# EAGLE library part ATTINY*313 (library atmel)
8-bit AVR tiny Microcontroller Status obsolete/discontinued aktiv aktiv ATtiny2313(V) ATtiny2313A ATtiny4313 General purpose working registers 32 SRAM 128 B 256 B Program flash memory 2 kB 4 kB EEPROM 128 B 256 B 16-bit Timer/Counter 1 8-bit Timer/Counter 1 USART 1 AC 1 Watchdog 1 General purpose I/O 18 External interrupts 18 Operating voltage 1.8 ... 5.5 V for ATtiny2313V 1.8 ... 5.5 V 2.7 ... 5.5 V for ATtiny2313 Speed grade 0 ... 4 MHz @ 1.8 ... 5.5 V for ATtiny2313V 0 ... 4 MHz @ 1.8 ... 5.5 V 0 ... 10 MHz @ 2.7 ... 5.5 V for ATtiny2313V 0 ... 10 MHz @ 2.7 ... 5.5 V 0 ... 10 MHz @ 2.7 ... 5.5 V for ATtiny2313 0 ... 20 MHz @ 4.5 ... 5.5 V 0 ... 20 MHz @ 4.5 ... 5.5 V for ATtiny2313 Clock options calibrated internal 4/8 MHz oscillator external crystal oscillator / ceramic resonator internal 128 kHz oscillator external clock input
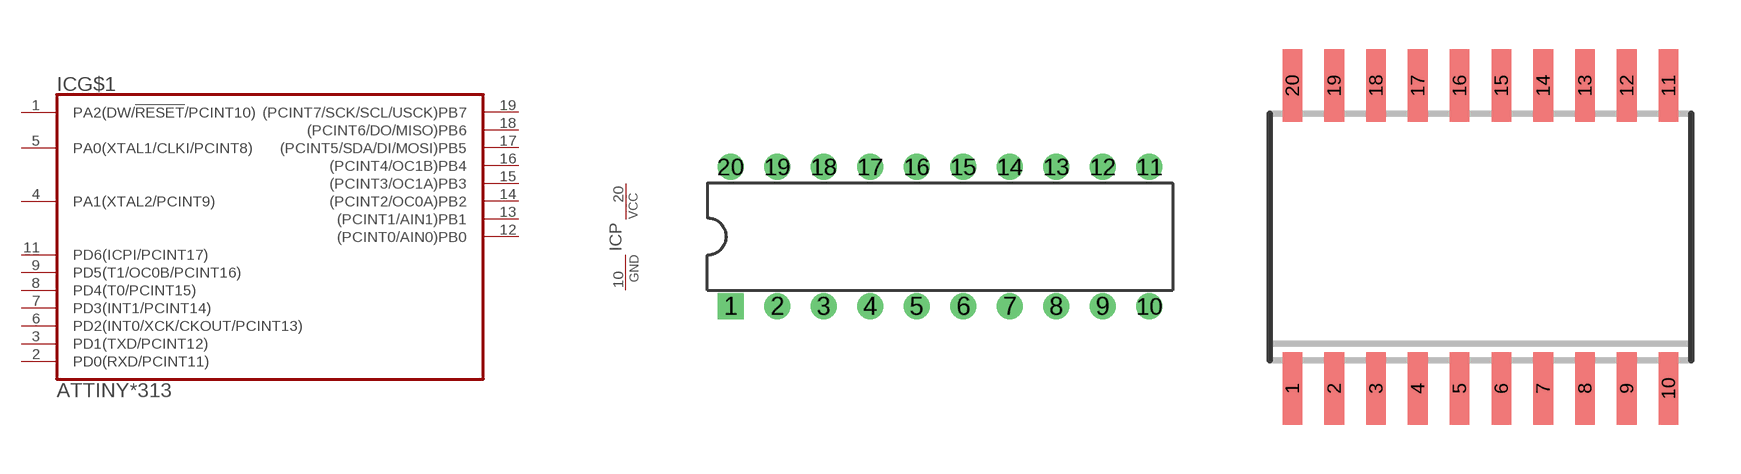
[diagram p96: symbol with the pads of DIL20; footprints DIL20, SO20W]

Designator prefix IC; gates G$1=TINY4313 P=PWR

## ATTINY2313V-10PU  [DIL20]
1  G$1:PA2(DW/!RESET!/PCINT10)
2  G$1:PD0(RXD/PCINT11)
3  G$1:PD1(TXD/PCINT12)
4  G$1:PA1(XTAL2/PCINT9)
5  G$1:PA0(XTAL1/CLKI/PCINT8)
6  G$1:PD2(INT0/XCK/CKOUT/PCINT13)
7  G$1:PD3(INT1/PCINT14)
8  G$1:PD4(T0/PCINT15)
9  G$1:PD5(T1/OC0B/PCINT16)
10  P:GND  pwr
11  G$1:PD6(ICPI/PCINT17)
12  G$1:(PCINT0/AIN0)PB0
13  G$1:(PCINT1/AIN1)PB1
14  G$1:(PCINT2/OC0A)PB2
15  G$1:(PCINT3/OC1A)PB3  pwr
16  G$1:(PCINT4/OC1B)PB4  pas
17  G$1:(PCINT5/SDA/DI/MOSI)PB5
18  G$1:(PCINT6/DO/MISO)PB6
19  G$1:(PCINT7/SCK/SCL/USCK)PB7
20  P:VCC  pwr

## ATTINY2313V-10SU  [SO20W]
Pads as for DIL20

## ATTINY2313V-10MU  [QFN20_4X4_0.50]
1  G$1:PD1(TXD/PCINT12)
2  G$1:PA1(XTAL2/PCINT9)
3  G$1:PA0(XTAL1/CLKI/PCINT8)
4  G$1:PD2(INT0/XCK/CKOUT/PCINT13)
5  G$1:PD3(INT1/PCINT14)
6  G$1:PD4(T0/PCINT15)
7  G$1:PD5(T1/OC0B/PCINT16)
8  P:GND  pwr
9  G$1:PD6(ICPI/PCINT17)
10  G$1:(PCINT0/AIN0)PB0
11  G$1:(PCINT1/AIN1)PB1
12  G$1:(PCINT2/OC0A)PB2
13  G$1:(PCINT3/OC1A)PB3  pwr
14  G$1:(PCINT4/OC1B)PB4  pas
15  G$1:(PCINT5/SDA/DI/MOSI)PB5
16  G$1:(PCINT6/DO/MISO)PB6
17  G$1:(PCINT7/SCK/SCL/USCK)PB7
18  P:VCC  pwr
19  G$1:PA2(DW/!RESET!/PCINT10)
20  G$1:PD0(RXD/PCINT11)
EXP  P:GND  pwr

## ATTINY2313-20PU  [DIL20]
Pads as for DIL20

## ATTINY2313-20SU  [SO20W]
Pads as for DIL20

## ATTINY2313-20MU  [QFN20_4X4_0.50]
Pads as for QFN20_4X4_0.50

## ATTINY2313A-PU  [DIL20]
Pads as for DIL20

## ATTINY2313A-SU  [SO20W]
Pads as for DIL20

## ATTINY2313A-MU  [QFN20_4X4_0.50]
Pads as for QFN20_4X4_0.50

## ATTINY2313A-MMH  [QFN20_3X3_0.45]
Pads as for QFN20_4X4_0.50

## ATTINY4313-PU  [DIL20]
Pads as for DIL20

## ATTINY4313-SU  [SO20W]
Pads as for DIL20

## ATTINY4313-MU  [QFN20_4X4_0.50]
Pads as for QFN20_4X4_0.50

## ATTINY4313-MMH  [QFN20_3X3_0.45]
Pads as for QFN20_4X4_0.50

## Footprint DIL20 (pad centres in mm)
DIL package, pin row distance 300mil
drill 0.8 pad 1.4 square: 1 -11.43,-3.81
drill 0.8 pad 1.4: 2 -8.89,-3.81; 3 -6.35,-3.81; 4 -3.81,-3.81; 5 -1.27,-3.81; 6 1.27,-3.81; 7 3.81,-3.81; 8 6.35,-3.81; 9 8.89,-3.81; 10 11.43,-3.81; 11 11.43,3.81; 12 8.89,3.81; 13 6.35,3.81; 14 3.81,3.81; 15 1.27,3.81; 16 -1.27,3.81; 17 -3.81,3.81; 18 -6.35,3.81; 19 -8.89,3.81; 20 -11.43,3.81

## Footprint SO20W (pad centres in mm)
Small Outline IC, 300mil body width, 50mil lead pitch package/pad dimensions according to IPC-SM-782, RLP No. 306A JEDEC: MS-013 AC IPC: SO20W other notations: SO-20W, SOIC20W, SOIC-20W
smd 0.6 x 2.2: 1 -5.715,-4.6; 2 -4.445,-4.6; 3 -3.175,-4.6; 4 -1.905,-4.6; 5 -0.635,-4.6; 6 0.635,-4.6; 7 1.905,-4.6; 8 3.175,-4.6; 9 4.445,-4.6; 10 5.715,-4.6; 11 5.715,4.6; 12 4.445,4.6; 13 3.175,4.6; 14 1.905,4.6; 15 0.635,4.6; 16 -0.635,4.6; 17 -1.905,4.6; 18 -3.175,4.6; 19 -4.445,4.6; 20 -5.715,4.6

## Footprint QFN20_4X4_0.50 (pad centres in mm)
20-Lead Plastic QFN, 4mm x 4mm body, 0.5mm lead pitch, exposed pad 0.45 mm lead length JEDEC: MO-220 ATMEL Code: 20M1, ZFV other notations: MFL20
smd 0.9 x 0.3: 1 -2,1; 2 -2,0.5; 3 -2,0; 4 -2,-0.5; 5 -2,-1; 11 2,-1; 12 2,-0.5; 13 2,0; 14 2,0.5; 15 2,1
smd 0.3 x 0.9: 6 -1,-2; 7 -0.5,-2; 8 0,-2; 9 0.5,-2; 10 1,-2; 16 1,2; 17 0.5,2; 18 0,2; 19 -0.5,2; 20 -1,2
smd 2.4 x 2.4: EXP 0,0

## Footprint QFN20_3X3_0.45 (pad centres in mm)
20-Lead Plastic QFN, 3mm x 3mm body, 0.45mm lead pitch, exposed pad ATMEL Code: 20M2, ZFC
smd 0.7 x 0.25: 1 -1.55,0.9; 5 -1.55,-0.9; 11 1.55,-0.9; 15 1.55,0.9
smd 0.8 x 0.25: 2 -1.5,0.45; 3 -1.5,0; 4 -1.5,-0.45; 12 1.5,-0.45; 13 1.5,0; 14 1.5,0.45
smd 0.25 x 0.7: 6 -0.9,-1.55; 10 0.9,-1.55; 16 0.9,1.55; 20 -0.9,1.55
smd 0.25 x 0.8: 7 -0.45,-1.5; 8 0,-1.5; 9 0.45,-1.5; 17 0.45,1.5; 18 0,1.5; 19 -0.45,1.5
smd 1.6 x 1.6: EXP 0,0